# Altium footprint library WP-BUTR.PcbLib: 12 footprints
Each footprint in its own frame and in the unit in brackets; x right, y up, seen from the top. Pads: shape width x height; smd on the part's side, far side on the other; paste and mask are expansions set on the pad; w line width, h text height; cw(c..) or ccw(c..) is an arc to the next point about the centre after c.
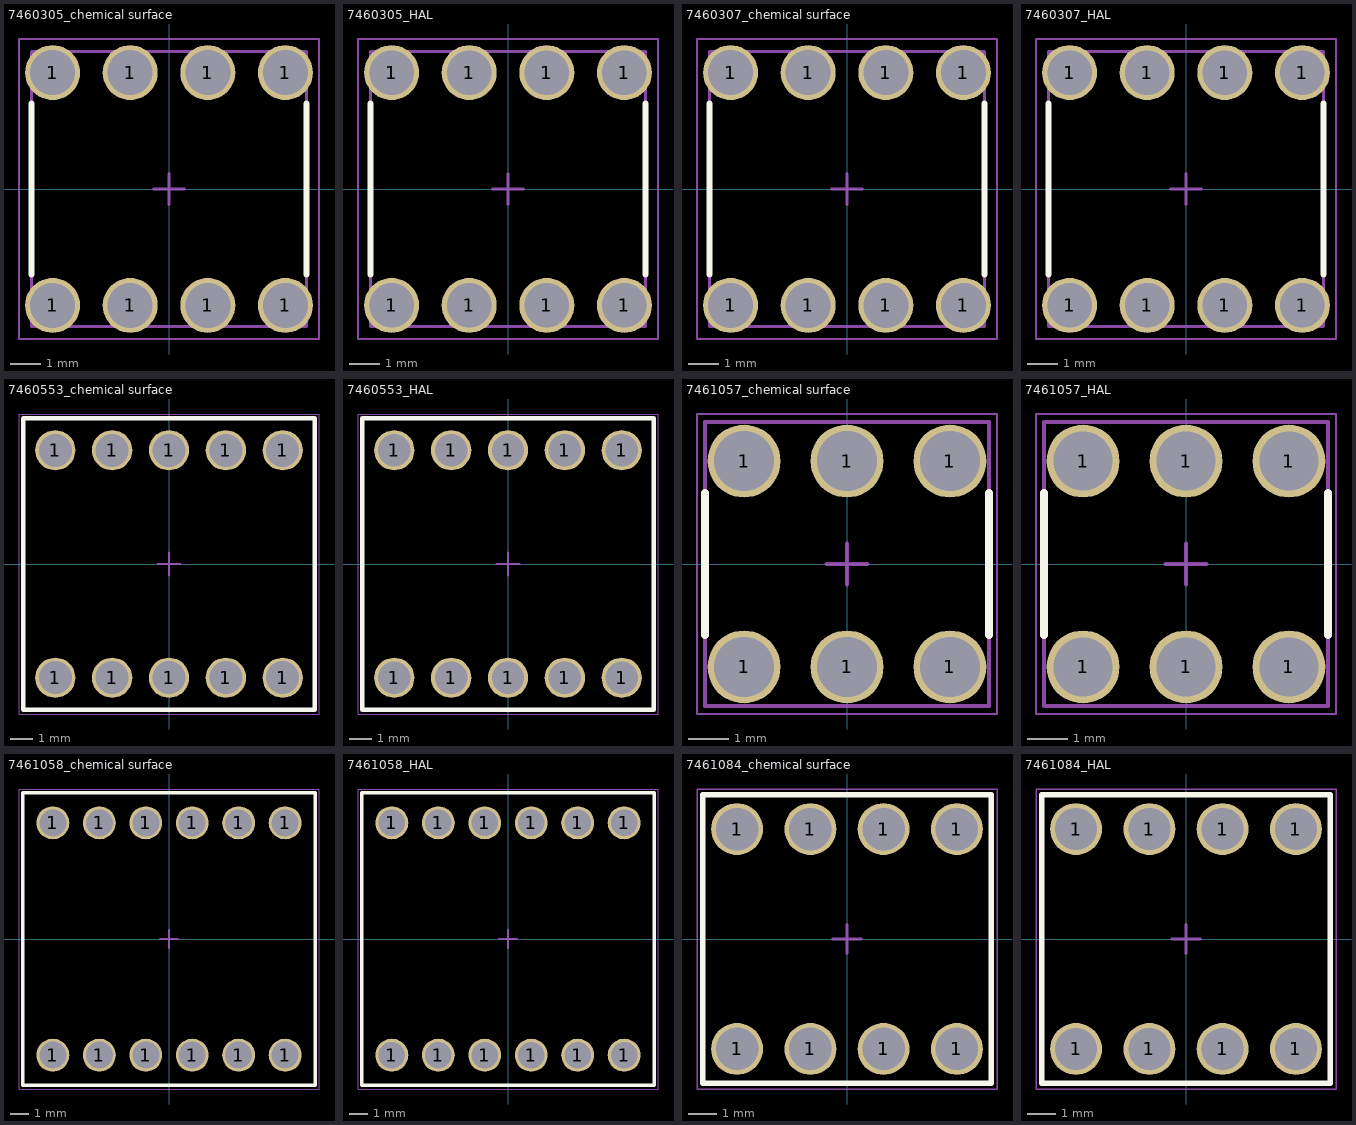
[diagram p0: the footprints below, top view; thin cyan lines are the x and y axes]

## 7460305_chemical surface [mm] "WP-BUTR Bushes with two Rows Pin-Plate, M5, blind thr 6mm"
height 7
pads (8):
  round 1.8 hole 1.475: 1(-3.81,-3.81) 1(-3.81,3.81) 1(-1.27,-3.81) 1(-1.27,3.81) 1(1.27,-3.81) 1(1.27,3.81) 1(3.81,-3.81) 1(3.81,3.81)
Top Overlay:
  lines w0.2: -4.5,-2.8 -4.5,2.8 ; 4.5,-2.8 4.5,2.8
Top Assembly:
  lines w0.1: -4.5,-4.5 -4.5,4.5 4.5,4.5 4.5,-4.5 -4.5,-4.5
Top Designator:
  text ".Designator" at -3.647,-0.357 h1
Top 3D Body:
  lines w0.1: -4.5,-4.5 4.5,-4.5 4.5,4.5 -4.5,4.5 -4.5,-4.5
Top Courtyard:
  lines w0.05: -4.91,-4.91 -4.91,4.91 4.91,4.91 4.91,-4.91 -4.91,-4.91
Top Component Center:
  lines w0.1: -0.5,0 0.5,0 ; 0,-0.5 0,0.5
3D body "7460305.stp": height 7, standoff -3.5, extent -4.5,-4.5 4.5,4.5

## 7460305_HAL [mm] "WP-BUTR Bushes with two Rows Pin-Plate, M5, blind thr 6mm"
height 7
pads (8):
  round 1.8 hole 1.45: 1(-3.81,-3.81) 1(-3.81,3.81) 1(-1.27,-3.81) 1(-1.27,3.81) 1(1.27,-3.81) 1(1.27,3.81) 1(3.81,-3.81) 1(3.81,3.81)
Top Overlay:
  lines w0.2: -4.5,-2.8 -4.5,2.8 ; 4.5,-2.8 4.5,2.8
Top Assembly:
  lines w0.1: -4.5,-4.5 4.5,-4.5 4.5,4.5 -4.5,4.5 -4.5,-4.5
Top Designator:
  text ".Designator" at -3.647,-0.357 h1
Top 3D Body:
  lines w0.1: -4.5,-4.5 4.5,-4.5 4.5,4.5 -4.5,4.5 -4.5,-4.5
Top Courtyard:
  lines w0.05: -4.91,-4.91 4.91,-4.91 4.91,4.91 -4.91,4.91 -4.91,-4.91
Top Component Center:
  lines w0.1: -0.5,0 0.5,0 ; 0,-0.5 0,0.5
3D body "7460305.stp": height 7, standoff -3.5, extent -4.5,-4.5 4.5,4.5

## 7460307_chemical surface [mm] "WP-BUTR Bushes with two Rows Pin-Plate, M4, blind thr 6mm"
height 7
pads (8):
  round 1.8 hole 1.475: 1(-3.81,-3.81) 1(-3.81,3.81) 1(-1.27,-3.81) 1(-1.27,3.81) 1(1.27,-3.81) 1(1.27,3.81) 1(3.81,-3.81) 1(3.81,3.81)
Top Overlay:
  lines w0.2: -4.5,-2.8 -4.5,2.8 ; 4.5,-2.8 4.5,2.8
Top Assembly:
  lines w0.1: -4.5,-4.5 4.5,-4.5 4.5,4.5 -4.5,4.5 -4.5,-4.5
Top Designator:
  text ".Designator" at -3.647,-0.357 h1
Top 3D Body:
  lines w0.1: -4.5,-4.5 -4.5,4.5 4.5,4.5 4.5,-4.5 -4.5,-4.5
Top Courtyard:
  lines w0.05: -4.91,-4.91 4.91,-4.91 4.91,4.91 -4.91,4.91 -4.91,-4.91
Top Component Center:
  lines w0.1: -0.5,0 0.5,0 ; 0,-0.5 0,0.5
3D body "7460307.stp": height 7, standoff -3.5, extent -4.5,-4.5 4.5,4.5

## 7460307_HAL [mm] "WP-BUTR Bushes with two Rows Pin-Plate, M4, blind thr 6mm"
height 7
pads (8):
  round 1.8 hole 1.45: 1(-3.81,-3.81) 1(-3.81,3.81) 1(-1.27,-3.81) 1(-1.27,3.81) 1(1.27,-3.81) 1(1.27,3.81) 1(3.81,-3.81) 1(3.81,3.81)
Top Overlay:
  lines w0.2: -4.5,-2.8 -4.5,2.8 ; 4.5,-2.8 4.5,2.8
Top Assembly:
  lines w0.1: -4.5,-4.5 4.5,-4.5 4.5,4.5 -4.5,4.5 -4.5,-4.5
Top Designator:
  text ".Designator" at -3.647,-0.357 h1
Top 3D Body:
  lines w0.1: -4.5,-4.5 -4.5,4.5 4.5,4.5 4.5,-4.5 -4.5,-4.5
Top Courtyard:
  lines w0.05: -4.91,-4.91 -4.91,4.91 4.91,4.91 4.91,-4.91 -4.91,-4.91
Top Component Center:
  lines w0.1: -0.5,0 0.5,0 ; 0,-0.5 0,0.5
3D body "7460307.stp": height 7, standoff -3.5, extent -4.5,-4.5 4.5,4.5

## 7460553_chemical surface [mm] "WP-BUTR Bushes with two Rows Pin-Plate, M8, blind thr 10mm"
height 13.5
pads (10):
  round 1.8 hole 1.475: 1(-5.08,-5.08) 1(-5.08,5.08) 1(-2.54,-5.08) 1(-2.54,5.08) 1(0,-5.08) 1(0,5.08) 1(2.54,-5.08) 1(2.54,5.08) 1(5.08,-5.08) 1(5.08,5.08)
Top Overlay:
  lines w0.2: -6.5,-6.5 6.5,-6.5 6.5,6.5 -6.5,6.5 -6.5,-6.5
Top Assembly:
  lines w0.1: -6.5,-6.5 -6.5,6.5 6.5,6.5 6.5,-6.5 -6.5,-6.5
Top Designator:
  text ".Designator" at -3.647,-0.357 h1
Top 3D Body:
  lines w0.1: -6.5,-6.5 6.5,-6.5 6.5,6.5 -6.5,6.5 -6.5,-6.5
Top Courtyard:
  lines w0.05: -6.7,-6.7 -6.7,6.7 6.7,6.7 6.7,-6.7 -6.7,-6.7
Top Component Center:
  lines w0.1: -0.5,0 0.5,0 ; 0,-0.5 0,0.5
3D body "7460553.stp": height 13.5, standoff -3.5, extent -6.5,-6.5 6.5,6.5

## 7460553_HAL [mm] "WP-BUTR Bushes with two Rows Pin-Plate, M8, blind thr 10mm"
height 13.5
pads (10):
  round 1.8 hole 1.45: 1(-5.08,-5.08) 1(-5.08,5.08) 1(-2.54,-5.08) 1(-2.54,5.08) 1(0,-5.08) 1(0,5.08) 1(2.54,-5.08) 1(2.54,5.08) 1(5.08,-5.08) 1(5.08,5.08)
Top Overlay:
  lines w0.2: -6.5,-6.5 6.5,-6.5 6.5,6.5 -6.5,6.5 -6.5,-6.5
Top Assembly:
  lines w0.1: -6.5,-6.5 -6.5,6.5 6.5,6.5 6.5,-6.5 -6.5,-6.5
Top Designator:
  text ".Designator" at -3.647,-0.357 h1
Top 3D Body:
  lines w0.1: -6.5,-6.5 6.5,-6.5 6.5,6.5 -6.5,6.5 -6.5,-6.5
Top Courtyard:
  lines w0.05: -6.7,-6.7 -6.7,6.7 6.7,6.7 6.7,-6.7 -6.7,-6.7
Top Component Center:
  lines w0.1: -0.5,0 0.5,0 ; 0,-0.5 0,0.5
3D body "7460553.stp": height 13.5, standoff -3.5, extent -6.5,-6.5 6.5,6.5

## 7461057_chemical surface [mm] "WP-BUTR Bushes with two Rows Pin-Plate, M3, blind thr 6mm"
height 6
pads (6):
  round 1.8 hole 1.475: 1(-2.54,-2.54) 1(-2.54,2.54) 1(0,-2.54) 1(0,2.54) 1(2.54,-2.54) 1(2.54,2.54)
Top Overlay:
  lines w0.2: -3.5,-1.75 -3.5,1.75 ; 3.5,-1.75 3.5,1.75
Top Assembly:
  lines w0.1: -3.5,-3.5 -3.5,3.5 3.5,3.5 3.5,-3.5 -3.5,-3.5
Top Designator:
  text ".Designator" at -3.647,-0.357 h1
Top 3D Body:
  lines w0.1: -3.5,-3.5 3.5,-3.5 3.5,3.5 -3.5,3.5 -3.5,-3.5
Top Courtyard:
  lines w0.05: -3.7,-3.7 -3.7,3.7 3.7,3.7 3.7,-3.7 -3.7,-3.7
Top Component Center:
  lines w0.1: -0.5,0 0.5,0 ; 0,-0.5 0,0.5
3D body "7461057.stp": height 6, standoff -3.5, extent -3.5,-3.5 3.5,3.5

## 7461057_HAL [mm] "WP-BUTR Bushes with two Rows Pin-Plate, M3, blind thr 6mm"
height 6
pads (6):
  round 1.8 hole 1.45: 1(-2.54,-2.54) 1(-2.54,2.54) 1(0,-2.54) 1(0,2.54) 1(2.54,-2.54) 1(2.54,2.54)
Top Overlay:
  lines w0.2: -3.5,-1.75 -3.5,1.75 ; 3.5,-1.75 3.5,1.75
Top Assembly:
  lines w0.1: -3.5,-3.5 -3.5,3.5 3.5,3.5 3.5,-3.5 -3.5,-3.5
Top Designator:
  text ".Designator" at -3.647,-0.357 h1
Top 3D Body:
  lines w0.1: -3.5,-3.5 3.5,-3.5 3.5,3.5 -3.5,3.5 -3.5,-3.5
Top Courtyard:
  lines w0.05: -3.7,-3.7 -3.7,3.7 3.7,3.7 3.7,-3.7 -3.7,-3.7
Top Component Center:
  lines w0.1: -0.5,0 0.5,0 ; 0,-0.5 0,0.5
3D body "7461057.stp": height 6, standoff -3.5, extent -3.5,-3.5 3.5,3.5

## 7461058_chemical surface [mm] "WP-BUTR Bushes with two Rows Pin-Plate, M10, blind 11mm"
height 17.5
pads (12):
  round 1.8 hole 1.475: 1(-6.35,-6.35) 1(-6.35,6.35) 1(-3.81,-6.35) 1(-3.81,6.35) 1(-1.27,-6.35) 1(-1.27,6.35) 1(1.27,-6.35) 1(1.27,6.35) 1(3.81,-6.35) 1(3.81,6.35) 1(6.35,-6.35) 1(6.35,6.35)
Top Overlay:
  lines w0.2: -8,-8 8,-8 8,8 -8,8 -8,-8
Top Assembly:
  lines w0.1: -8,-8 -8,8 8,8 8,-8 -8,-8
Top Designator:
  text ".Designator" at -3.647,-0.357 h1
Top 3D Body:
  lines w0.1: -8,-8 8,-8 8,8 -8,8 -8,-8
Top Courtyard:
  lines w0.05: -8.2,-8.2 -8.2,8.2 8.2,8.2 8.2,-8.2 -8.2,-8.2
Top Component Center:
  lines w0.1: -0.5,0 0.5,0 ; 0,-0.5 0,0.5
3D body "7461058.stp": height 17.5, standoff -3.5, extent -8,-8 8,8

## 7461058_HAL [mm] "WP-BUTR Bushes with two Rows Pin-Plate, M10, blind 11mm"
height 17.5
pads (12):
  round 1.8 hole 1.45: 1(-6.35,-6.35) 1(-6.35,6.35) 1(-3.81,-6.35) 1(-3.81,6.35) 1(-1.27,-6.35) 1(-1.27,6.35) 1(1.27,-6.35) 1(1.27,6.35) 1(3.81,-6.35) 1(3.81,6.35) 1(6.35,-6.35) 1(6.35,6.35)
Top Overlay:
  lines w0.2: -8,-8 -8,8 8,8 8,-8 -8,-8
Top Assembly:
  lines w0.1: -8,-8 8,-8 8,8 -8,8 -8,-8
Top Designator:
  text ".Designator" at -3.647,-0.357 h1
Top 3D Body:
  lines w0.1: -8,-8 8,-8 8,8 -8,8 -8,-8
Top Courtyard:
  lines w0.05: -8.2,-8.2 8.2,-8.2 8.2,8.2 -8.2,8.2 -8.2,-8.2
Top Component Center:
  lines w0.1: -0.5,0 0.5,0 ; 0,-0.5 0,0.5
3D body "7461058.stp": height 17.5, standoff -3.5, extent -8,-8 8,8

## 7461084_chemical surface [mm] "WP-BUTR Bushes with two Rows Pin-Plate, M6, blind 9mm"
height 13.5
pads (8):
  round 1.8 hole 1.475: 1(-3.81,-3.81) 1(-3.81,3.81) 1(-1.27,-3.81) 1(-1.27,3.81) 1(1.27,-3.81) 1(1.27,3.81) 1(3.81,-3.81) 1(3.81,3.81)
Top Overlay:
  lines w0.2: -5,-5 5,-5 5,5 -5,5 -5,-5
Top Assembly:
  lines w0.1: -5,-5 -5,5 5,5 5,-5 -5,-5
Top Designator:
  text ".Designator" at -3.647,-0.357 h1
Top 3D Body:
  lines w0.1: -5,-5 5,-5 5,5 -5,5 -5,-5
Top Courtyard:
  lines w0.05: -5.2,-5.2 -5.2,5.2 5.2,5.2 5.2,-5.2 -5.2,-5.2
Top Component Center:
  lines w0.1: -0.5,0 0.5,0 ; 0,-0.5 0,0.5
3D body "7461084.stp": height 13.5, standoff -3.5, extent -5,-5 5,5

## 7461084_HAL [mm] "WP-BUTR Bushes with two Rows Pin-Plate, M6, blind 9mm"
height 13.5
pads (8):
  round 1.8 hole 1.45: 1(-3.81,-3.81) 1(-3.81,3.81) 1(-1.27,-3.81) 1(-1.27,3.81) 1(1.27,-3.81) 1(1.27,3.81) 1(3.81,-3.81) 1(3.81,3.81)
Top Overlay:
  lines w0.2: -5,-5 5,-5 5,5 -5,5 -5,-5
Top Assembly:
  lines w0.1: -5,-5 -5,5 5,5 5,-5 -5,-5
Top Designator:
  text ".Designator" at -3.647,-0.357 h1
Top 3D Body:
  lines w0.1: -5,-5 -5,5 5,5 5,-5 -5,-5
Top Courtyard:
  lines w0.05: -5.2,-5.2 -5.2,5.2 5.2,5.2 5.2,-5.2 -5.2,-5.2
Top Component Center:
  lines w0.1: -0.5,0 0.5,0 ; 0,-0.5 0,0.5
3D body "7461084.stp": height 13.5, standoff -3.5, extent -5,-5 5,5